# Altium schematic symbol library Sonar.SchLib: 1 symbol
Pins are listed as number, name and electrical type; pins without a type are passive.

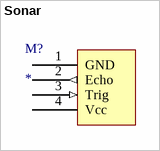
[diagram p0: symbol Sonar]

## Sonar
designator M?
footprint Sonar
pins: 1 GND (power), 2 Echo (out), 3 Trig (in), 4 Vcc (power)